# Altium integrated library Renesas Microcontroller 740.IntLib: 274 symbols (part 6 of 13)
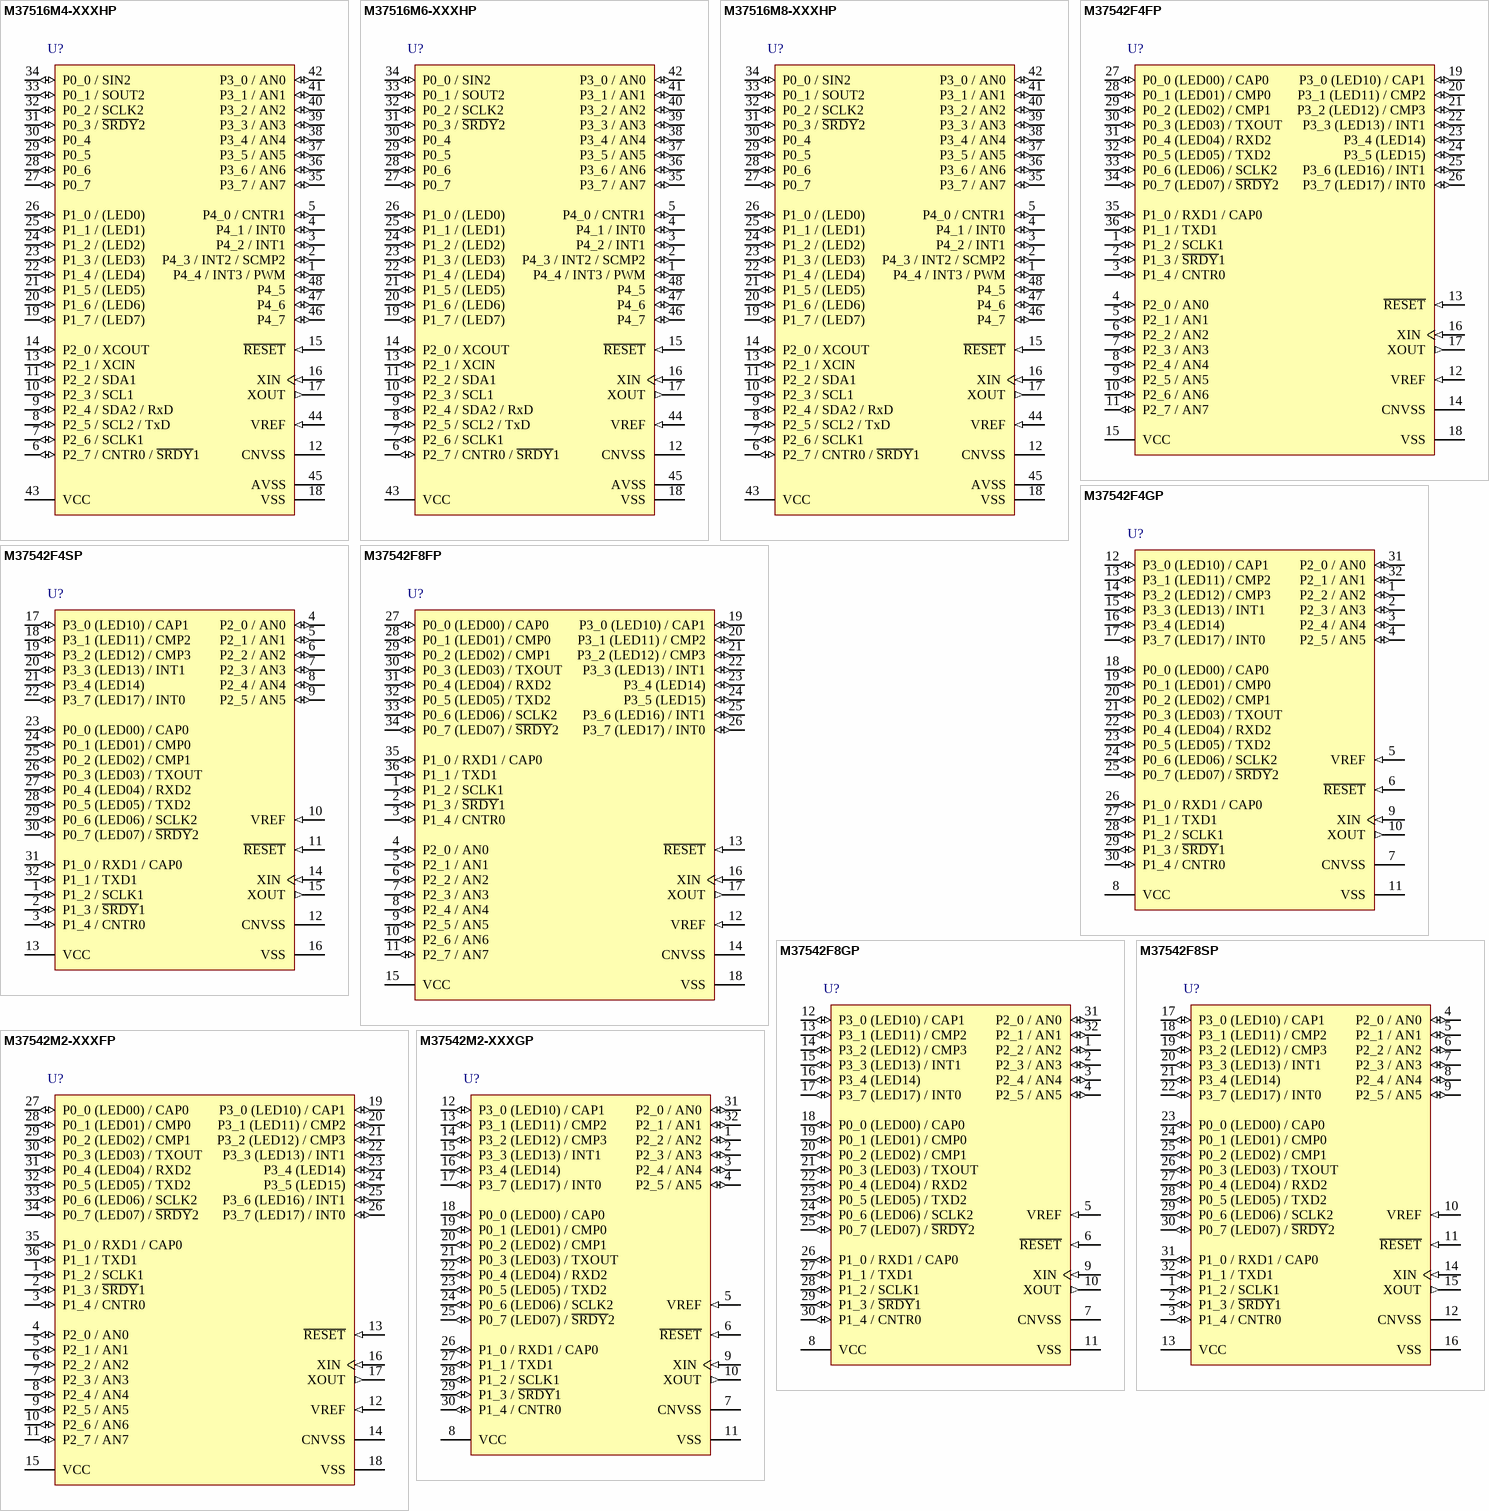
[diagram p42: symbols M37516M4-XXXHP to M37542M2-XXXGP]

## M37542F4FP
designator U?
Flash Memory 8-BIT CMOS Microcomputer, 38000/740 Series CPU, 7542 Group, 20K ROM, 1K RAM, 36P2R-A Pkg; Published: 28-Aug-2009; DatasheetVersion: Rev.3.03, Jul-2008; PackageVersion: Sep-2005; PackageReference: PRSP0036GA-A; Publisher: Altium Limited; PackageDescription: 36-Pin Plastic Shrink SOP, 15 x 8.4 mm Body, 0.8 mm Pitch; Code_JEITA: P-SSOP36-8.4x15-0.80; ComponentLink1Description: Manufacturer Link; ComponentLink1URL: http://sg.renesas.com/fmwk.jsp?cnt=740_family_landing.jsp&fp=/products/mpumcu/740_family/; ComponentLink2Description: Datasheet; ComponentLink2URL: http://documentation.renesas.com/eng/products/mpumcu/rej03b0006_7542ds.pdf; ComponentLink3Description: Packaging Specification; ComponentLink3URL: http://sg.renesas.com/media/products/common_info/package/pdf/ic/code/prsp0036ga_a.pdf
footprint PRSP0036GA-A_N (SOP, 36-Leads, Body 15x8.4mm, Pitch 0.8mm, IPC Medium Density)
footprint PRSP0036GA-A_L (SOP, 36-Leads, Body 15x8.4mm, Pitch 0.8mm, IPC High Density)
footprint PRSP0036GA-A_M (SOP, 36-Leads, Body 15x8.4mm, Pitch 0.8mm, IPC Low Density)
pins: 1 P1_2 / SCLK1 (io), 2 P1_3 / ~{SRDY}1 (io), 3 P1_4 / CNTR0 (io), 4 P2_0 / AN0 (io), 5 P2_1 / AN1 (io), 6 P2_2 / AN2 (io), 7 P2_3 / AN3 (io), 8 P2_4 / AN4 (io), 9 P2_5 / AN5 (io), 10 P2_6 / AN6 (io), 11 P2_7 / AN7 (io), 12 VREF (in), 13 ~{RESET} (in), 14 CNVSS (power), 15 VCC (power), 16 XIN (in), 17 XOUT (out), 18 VSS (power), 19 P3_0 (LED10) / CAP1 (io), 20 P3_1 (LED11) / CMP2 (io), 21 P3_2 (LED12) / CMP3 (io), 22 P3_3 (LED13) / INT1 (io), 23 P3_4 (LED14) (io), 24 P3_5 (LED15) (io), 25 P3_6 (LED16) / INT1 (io), 26 P3_7 (LED17) / INT0 (io), 27 P0_0 (LED00) / CAP0 (io), 28 P0_1 (LED01) / CMP0 (io), 29 P0_2 (LED02) / CMP1 (io), 30 P0_3 (LED03) / TXOUT (io), 31 P0_4 (LED04) / RXD2 (io), 32 P0_5 (LED05) / TXD2 (io), 33 P0_6 (LED06) / SCLK2 (io), 34 P0_7 (LED07) / ~{SRDY}2 (io), 35 P1_0 / RXD1 / CAP0 (io), 36 P1_1 / TXD1 (io)

## M37542F4GP
designator U?
Flash Memory 8-BIT CMOS Microcomputer, 38000/740 Series CPU, 7542 Group, 20K ROM, 1K RAM, 32P6U-A Pkg; Published: 28-Aug-2009; DatasheetVersion: Rev.3.03, Jul-2008; PackageVersion: Oct-2005; PackageReference: PLQP0032GB-A; Publisher: Altium Limited; PackageDescription: 32-Pin Plastic Low Profile QFP, 7 x 7 x 1.4 mm Body, 0.8 mm Pitch; Code_JEITA: P-LQFP32-7x7-0.80; ComponentLink1Description: Manufacturer Link; ComponentLink1URL: http://sg.renesas.com/fmwk.jsp?cnt=740_family_landing.jsp&fp=/products/mpumcu/740_family/; ComponentLink2Description: Datasheet; ComponentLink2URL: http://documentation.renesas.com/eng/products/mpumcu/rej03b0006_7542ds.pdf; ComponentLink3Description: Packaging Specification; ComponentLink3URL: http://sg.renesas.com/media/products/common_info/package/pdf/ic/code/plqp0032gb_a.pdf
footprint PLQP0032GB-A_N (QFP, 32-Leads, Body 7x7mm, Pitch 0.8mm, IPC Medium Density)
footprint PLQP0032GB-A_L (QFP, 32-Leads, Body 7x7mm, Pitch 0.8mm, IPC High Density)
footprint PLQP0032GB-A_M (QFP, 32-Leads, Body 7x7mm, Pitch 0.8mm, IPC Low Density)
pins: 1 P2_2 / AN2 (io), 2 P2_3 / AN3 (io), 3 P2_4 / AN4 (io), 4 P2_5 / AN5 (io), 5 VREF (in), 6 ~{RESET} (in), 7 CNVSS (power), 8 VCC (power), 9 XIN (in), 10 XOUT (out), 11 VSS (power), 12 P3_0 (LED10) / CAP1 (io), 13 P3_1 (LED11) / CMP2 (io), 14 P3_2 (LED12) / CMP3 (io), 15 P3_3 (LED13) / INT1 (io), 16 P3_4 (LED14) (io), 17 P3_7 (LED17) / INT0 (io), 18 P0_0 (LED00) / CAP0 (io), 19 P0_1 (LED01) / CMP0 (io), 20 P0_2 (LED02) / CMP1 (io), 21 P0_3 (LED03) / TXOUT (io), 22 P0_4 (LED04) / RXD2 (io), 23 P0_5 (LED05) / TXD2 (io), 24 P0_6 (LED06) / SCLK2 (io), 25 P0_7 (LED07) / ~{SRDY}2 (io), 26 P1_0 / RXD1 / CAP0 (io), 27 P1_1 / TXD1 (io), 28 P1_2 / SCLK1 (io), 29 P1_3 / ~{SRDY}1 (io), 30 P1_4 / CNTR0 (io), 31 P2_0 / AN0 (io), 32 P2_1 / AN1 (io)

## M37542F4SP
designator U?
Flash Memory 8-BIT CMOS Microcomputer, 38000/740 Series CPU, 7542 Group, 20K ROM, 1K RAM, 32P4B Pkg; Published: 28-Aug-2009; DatasheetVersion: Rev.3.03, Jul-2008; PackageVersion: Sep-2005; PackageReference: PRDP0032BA-A; Publisher: Altium Limited; PackageDescription: 32-Pin Plastic Shrink DIP, 28 x 8.9 mm Body, 10.16 mm Row Spacing , 1.778 mm Pitch; Code_JEITA: P-SDIP32-8.9x28-1.78; ComponentLink1Description: Manufacturer Link; ComponentLink1URL: http://sg.renesas.com/fmwk.jsp?cnt=740_family_landing.jsp&fp=/products/mpumcu/740_family/; ComponentLink2Description: Datasheet; ComponentLink2URL: http://documentation.renesas.com/eng/products/mpumcu/rej03b0006_7542ds.pdf; ComponentLink3Description: Packaging Specification; ComponentLink3URL: http://sg.renesas.com/media/products/common_info/package/pdf/ic/code/prdp0032ba_a.pdf
footprint PRDP0032BA-A (DIP, 32-Leads, Row Spacing 10.16mm, Pitch 1.778mm, Body 28x8.9mm)
pins: 1 P1_2 / SCLK1 (io), 2 P1_3 / ~{SRDY}1 (io), 3 P1_4 / CNTR0 (io), 4 P2_0 / AN0 (io), 5 P2_1 / AN1 (io), 6 P2_2 / AN2 (io), 7 P2_3 / AN3 (io), 8 P2_4 / AN4 (io), 9 P2_5 / AN5 (io), 10 VREF (in), 11 ~{RESET} (in), 12 CNVSS (power), 13 VCC (power), 14 XIN (in), 15 XOUT (out), 16 VSS (power), 17 P3_0 (LED10) / CAP1 (io), 18 P3_1 (LED11) / CMP2 (io), 19 P3_2 (LED12) / CMP3 (io), 20 P3_3 (LED13) / INT1 (io), 21 P3_4 (LED14) (io), 22 P3_7 (LED17) / INT0 (io), 23 P0_0 (LED00) / CAP0 (io), 24 P0_1 (LED01) / CMP0 (io), 25 P0_2 (LED02) / CMP1 (io), 26 P0_3 (LED03) / TXOUT (io), 27 P0_4 (LED04) / RXD2 (io), 28 P0_5 (LED05) / TXD2 (io), 29 P0_6 (LED06) / SCLK2 (io), 30 P0_7 (LED07) / ~{SRDY}2 (io), 31 P1_0 / RXD1 / CAP0 (io), 32 P1_1 / TXD1 (io)

## M37542F8FP
designator U?
Flash Memory 8-BIT CMOS Microcomputer, 38000/740 Series CPU, 7542 Group, 36K ROM, 1K RAM, 36P2R-A Pkg; Published: 28-Aug-2009; DatasheetVersion: Rev.3.03, Jul-2008; PackageVersion: Sep-2005; PackageReference: PRSP0036GA-A; Publisher: Altium Limited; PackageDescription: 36-Pin Plastic Shrink SOP, 15 x 8.4 mm Body, 0.8 mm Pitch; Supplier 1: Digi-Key; Supplier Part Number 1: M37542F8FP-ND; Code_JEITA: P-SSOP36-8.4x15-0.80; ComponentLink1Description: Manufacturer Link; ComponentLink1URL: http://sg.renesas.com/fmwk.jsp?cnt=740_family_landing.jsp&fp=/products/mpumcu/740_family/; ComponentLink2Description: Datasheet; ComponentLink2URL: http://documentation.renesas.com/eng/products/mpumcu/rej03b0006_7542ds.pdf; ComponentLink3Description: Packaging Specification; ComponentLink3URL: http://sg.renesas.com/media/products/common_info/package/pdf/ic/code/prsp0036ga_a.pdf
footprint PRSP0036GA-A_N (SOP, 36-Leads, Body 15x8.4mm, Pitch 0.8mm, IPC Medium Density)
footprint PRSP0036GA-A_L (SOP, 36-Leads, Body 15x8.4mm, Pitch 0.8mm, IPC High Density)
footprint PRSP0036GA-A_M (SOP, 36-Leads, Body 15x8.4mm, Pitch 0.8mm, IPC Low Density)
pins: 1 P1_2 / SCLK1 (io), 2 P1_3 / ~{SRDY}1 (io), 3 P1_4 / CNTR0 (io), 4 P2_0 / AN0 (io), 5 P2_1 / AN1 (io), 6 P2_2 / AN2 (io), 7 P2_3 / AN3 (io), 8 P2_4 / AN4 (io), 9 P2_5 / AN5 (io), 10 P2_6 / AN6 (io), 11 P2_7 / AN7 (io), 12 VREF (in), 13 ~{RESET} (in), 14 CNVSS (power), 15 VCC (power), 16 XIN (in), 17 XOUT (out), 18 VSS (power), 19 P3_0 (LED10) / CAP1 (io), 20 P3_1 (LED11) / CMP2 (io), 21 P3_2 (LED12) / CMP3 (io), 22 P3_3 (LED13) / INT1 (io), 23 P3_4 (LED14) (io), 24 P3_5 (LED15) (io), 25 P3_6 (LED16) / INT1 (io), 26 P3_7 (LED17) / INT0 (io), 27 P0_0 (LED00) / CAP0 (io), 28 P0_1 (LED01) / CMP0 (io), 29 P0_2 (LED02) / CMP1 (io), 30 P0_3 (LED03) / TXOUT (io), 31 P0_4 (LED04) / RXD2 (io), 32 P0_5 (LED05) / TXD2 (io), 33 P0_6 (LED06) / SCLK2 (io), 34 P0_7 (LED07) / ~{SRDY}2 (io), 35 P1_0 / RXD1 / CAP0 (io), 36 P1_1 / TXD1 (io)

## M37542F8GP
designator U?
Flash Memory 8-BIT CMOS Microcomputer, 38000/740 Series CPU, 7542 Group, 36K ROM, 1K RAM, 32P6U-A Pkg; Published: 28-Aug-2009; DatasheetVersion: Rev.3.03, Jul-2008; PackageVersion: Oct-2005; PackageReference: PLQP0032GB-A; Publisher: Altium Limited; PackageDescription: 32-Pin Plastic Low Profile QFP, 7 x 7 x 1.4 mm Body, 0.8 mm Pitch; Supplier 1: Digi-Key; Supplier Part Number 1: M37542F8GP-ND; Code_JEITA: P-LQFP32-7x7-0.80; ComponentLink1Description: Manufacturer Link; ComponentLink1URL: http://sg.renesas.com/fmwk.jsp?cnt=740_family_landing.jsp&fp=/products/mpumcu/740_family/; ComponentLink2Description: Datasheet; ComponentLink2URL: http://documentation.renesas.com/eng/products/mpumcu/rej03b0006_7542ds.pdf; ComponentLink3Description: Packaging Specification; ComponentLink3URL: http://sg.renesas.com/media/products/common_info/package/pdf/ic/code/plqp0032gb_a.pdf
footprint PLQP0032GB-A_N (QFP, 32-Leads, Body 7x7mm, Pitch 0.8mm, IPC Medium Density)
footprint PLQP0032GB-A_L (QFP, 32-Leads, Body 7x7mm, Pitch 0.8mm, IPC High Density)
footprint PLQP0032GB-A_M (QFP, 32-Leads, Body 7x7mm, Pitch 0.8mm, IPC Low Density)
pins: 1 P2_2 / AN2 (io), 2 P2_3 / AN3 (io), 3 P2_4 / AN4 (io), 4 P2_5 / AN5 (io), 5 VREF (in), 6 ~{RESET} (in), 7 CNVSS (power), 8 VCC (power), 9 XIN (in), 10 XOUT (out), 11 VSS (power), 12 P3_0 (LED10) / CAP1 (io), 13 P3_1 (LED11) / CMP2 (io), 14 P3_2 (LED12) / CMP3 (io), 15 P3_3 (LED13) / INT1 (io), 16 P3_4 (LED14) (io), 17 P3_7 (LED17) / INT0 (io), 18 P0_0 (LED00) / CAP0 (io), 19 P0_1 (LED01) / CMP0 (io), 20 P0_2 (LED02) / CMP1 (io), 21 P0_3 (LED03) / TXOUT (io), 22 P0_4 (LED04) / RXD2 (io), 23 P0_5 (LED05) / TXD2 (io), 24 P0_6 (LED06) / SCLK2 (io), 25 P0_7 (LED07) / ~{SRDY}2 (io), 26 P1_0 / RXD1 / CAP0 (io), 27 P1_1 / TXD1 (io), 28 P1_2 / SCLK1 (io), 29 P1_3 / ~{SRDY}1 (io), 30 P1_4 / CNTR0 (io), 31 P2_0 / AN0 (io), 32 P2_1 / AN1 (io)

## M37542F8SP
designator U?
Flash Memory 8-BIT CMOS Microcomputer, 38000/740 Series CPU, 7542 Group, 36K ROM, 1K RAM, 32P4B Pkg; Published: 28-Aug-2009; DatasheetVersion: Rev.3.03, Jul-2008; PackageVersion: Sep-2005; PackageReference: PRDP0032BA-A; Publisher: Altium Limited; PackageDescription: 32-Pin Plastic Shrink DIP, 28 x 8.9 mm Body, 10.16 mm Row Spacing , 1.778 mm Pitch; Supplier 1: Digi-Key; Supplier Part Number 1: M37542F8SP-ND; Code_JEITA: P-SDIP32-8.9x28-1.78; ComponentLink1Description: Manufacturer Link; ComponentLink1URL: http://sg.renesas.com/fmwk.jsp?cnt=740_family_landing.jsp&fp=/products/mpumcu/740_family/; ComponentLink2Description: Datasheet; ComponentLink2URL: http://documentation.renesas.com/eng/products/mpumcu/rej03b0006_7542ds.pdf; ComponentLink3Description: Packaging Specification; ComponentLink3URL: http://sg.renesas.com/media/products/common_info/package/pdf/ic/code/prdp0032ba_a.pdf
footprint PRDP0032BA-A (DIP, 32-Leads, Row Spacing 10.16mm, Pitch 1.778mm, Body 28x8.9mm)
pins: 1 P1_2 / SCLK1 (io), 2 P1_3 / ~{SRDY}1 (io), 3 P1_4 / CNTR0 (io), 4 P2_0 / AN0 (io), 5 P2_1 / AN1 (io), 6 P2_2 / AN2 (io), 7 P2_3 / AN3 (io), 8 P2_4 / AN4 (io), 9 P2_5 / AN5 (io), 10 VREF (in), 11 ~{RESET} (in), 12 CNVSS (power), 13 VCC (power), 14 XIN (in), 15 XOUT (out), 16 VSS (power), 17 P3_0 (LED10) / CAP1 (io), 18 P3_1 (LED11) / CMP2 (io), 19 P3_2 (LED12) / CMP3 (io), 20 P3_3 (LED13) / INT1 (io), 21 P3_4 (LED14) (io), 22 P3_7 (LED17) / INT0 (io), 23 P0_0 (LED00) / CAP0 (io), 24 P0_1 (LED01) / CMP0 (io), 25 P0_2 (LED02) / CMP1 (io), 26 P0_3 (LED03) / TXOUT (io), 27 P0_4 (LED04) / RXD2 (io), 28 P0_5 (LED05) / TXD2 (io), 29 P0_6 (LED06) / SCLK2 (io), 30 P0_7 (LED07) / ~{SRDY}2 (io), 31 P1_0 / RXD1 / CAP0 (io), 32 P1_1 / TXD1 (io)

## M37542M2-XXXFP
designator U?
Mask ROM 8-BIT CMOS Microcomputer, 38000/740 Series CPU, 7542 Group, 8K ROM, 384 bytes RAM, 36P2R-A Pkg; Published: 28-Aug-2009; DatasheetVersion: Rev.3.03, Jul-2008; PackageVersion: Sep-2005; PackageReference: PRSP0036GA-A; Publisher: Altium Limited; PackageDescription: 36-Pin Plastic Shrink SOP, 15 x 8.4 mm Body, 0.8 mm Pitch; Code_JEITA: P-SSOP36-8.4x15-0.80; ComponentLink1Description: Manufacturer Link; ComponentLink1URL: http://sg.renesas.com/fmwk.jsp?cnt=740_family_landing.jsp&fp=/products/mpumcu/740_family/; ComponentLink2Description: Datasheet; ComponentLink2URL: http://documentation.renesas.com/eng/products/mpumcu/rej03b0006_7542ds.pdf; ComponentLink3Description: Packaging Specification; ComponentLink3URL: http://sg.renesas.com/media/products/common_info/package/pdf/ic/code/prsp0036ga_a.pdf
footprint PRSP0036GA-A_N (SOP, 36-Leads, Body 15x8.4mm, Pitch 0.8mm, IPC Medium Density)
footprint PRSP0036GA-A_L (SOP, 36-Leads, Body 15x8.4mm, Pitch 0.8mm, IPC High Density)
footprint PRSP0036GA-A_M (SOP, 36-Leads, Body 15x8.4mm, Pitch 0.8mm, IPC Low Density)
pins: 1 P1_2 / SCLK1 (io), 2 P1_3 / ~{SRDY}1 (io), 3 P1_4 / CNTR0 (io), 4 P2_0 / AN0 (io), 5 P2_1 / AN1 (io), 6 P2_2 / AN2 (io), 7 P2_3 / AN3 (io), 8 P2_4 / AN4 (io), 9 P2_5 / AN5 (io), 10 P2_6 / AN6 (io), 11 P2_7 / AN7 (io), 12 VREF (in), 13 ~{RESET} (in), 14 CNVSS (power), 15 VCC (power), 16 XIN (in), 17 XOUT (out), 18 VSS (power), 19 P3_0 (LED10) / CAP1 (io), 20 P3_1 (LED11) / CMP2 (io), 21 P3_2 (LED12) / CMP3 (io), 22 P3_3 (LED13) / INT1 (io), 23 P3_4 (LED14) (io), 24 P3_5 (LED15) (io), 25 P3_6 (LED16) / INT1 (io), 26 P3_7 (LED17) / INT0 (io), 27 P0_0 (LED00) / CAP0 (io), 28 P0_1 (LED01) / CMP0 (io), 29 P0_2 (LED02) / CMP1 (io), 30 P0_3 (LED03) / TXOUT (io), 31 P0_4 (LED04) / RXD2 (io), 32 P0_5 (LED05) / TXD2 (io), 33 P0_6 (LED06) / SCLK2 (io), 34 P0_7 (LED07) / ~{SRDY}2 (io), 35 P1_0 / RXD1 / CAP0 (io), 36 P1_1 / TXD1 (io)

## M37542M2-XXXGP
designator U?
Mask ROM 8-BIT CMOS Microcomputer, 38000/740 Series CPU, 7542 Group, 8K ROM, 384 bytes RAM, 32P6U-A Pkg; Published: 28-Aug-2009; DatasheetVersion: Rev.3.03, Jul-2008; PackageVersion: Oct-2005; PackageReference: PLQP0032GB-A; Publisher: Altium Limited; PackageDescription: 32-Pin Plastic Low Profile QFP, 7 x 7 x 1.4 mm Body, 0.8 mm Pitch; Code_JEITA: P-LQFP32-7x7-0.80; ComponentLink1Description: Manufacturer Link; ComponentLink1URL: http://sg.renesas.com/fmwk.jsp?cnt=740_family_landing.jsp&fp=/products/mpumcu/740_family/; ComponentLink2Description: Datasheet; ComponentLink2URL: http://documentation.renesas.com/eng/products/mpumcu/rej03b0006_7542ds.pdf; ComponentLink3Description: Packaging Specification; ComponentLink3URL: http://sg.renesas.com/media/products/common_info/package/pdf/ic/code/plqp0032gb_a.pdf
footprint PLQP0032GB-A_N (QFP, 32-Leads, Body 7x7mm, Pitch 0.8mm, IPC Medium Density)
footprint PLQP0032GB-A_L (QFP, 32-Leads, Body 7x7mm, Pitch 0.8mm, IPC High Density)
footprint PLQP0032GB-A_M (QFP, 32-Leads, Body 7x7mm, Pitch 0.8mm, IPC Low Density)
pins: 1 P2_2 / AN2 (io), 2 P2_3 / AN3 (io), 3 P2_4 / AN4 (io), 4 P2_5 / AN5 (io), 5 VREF (in), 6 ~{RESET} (in), 7 CNVSS (power), 8 VCC (power), 9 XIN (in), 10 XOUT (out), 11 VSS (power), 12 P3_0 (LED10) / CAP1 (io), 13 P3_1 (LED11) / CMP2 (io), 14 P3_2 (LED12) / CMP3 (io), 15 P3_3 (LED13) / INT1 (io), 16 P3_4 (LED14) (io), 17 P3_7 (LED17) / INT0 (io), 18 P0_0 (LED00) / CAP0 (io), 19 P0_1 (LED01) / CMP0 (io), 20 P0_2 (LED02) / CMP1 (io), 21 P0_3 (LED03) / TXOUT (io), 22 P0_4 (LED04) / RXD2 (io), 23 P0_5 (LED05) / TXD2 (io), 24 P0_6 (LED06) / SCLK2 (io), 25 P0_7 (LED07) / ~{SRDY}2 (io), 26 P1_0 / RXD1 / CAP0 (io), 27 P1_1 / TXD1 (io), 28 P1_2 / SCLK1 (io), 29 P1_3 / ~{SRDY}1 (io), 30 P1_4 / CNTR0 (io), 31 P2_0 / AN0 (io), 32 P2_1 / AN1 (io)

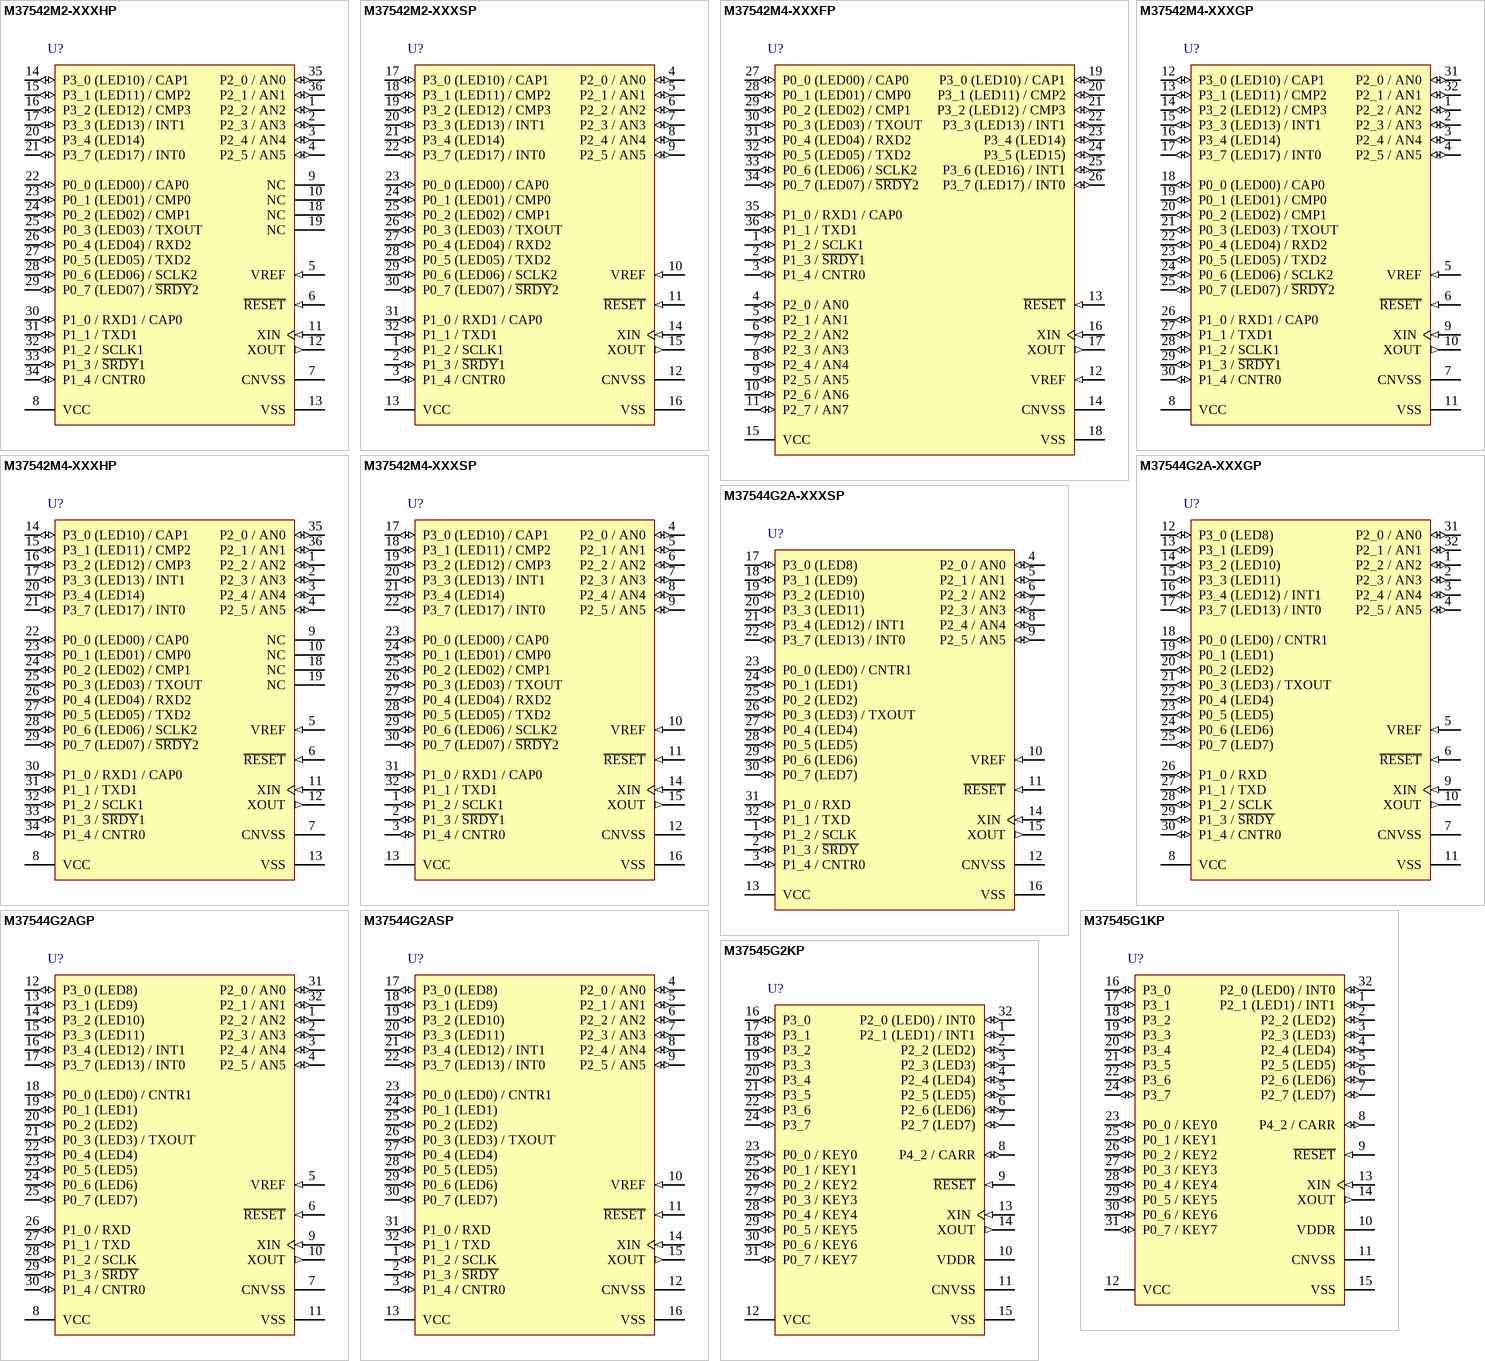
[diagram p17: symbols M37542M2-XXXHP to M37545G2KP]

## M37542M2-XXXHP
designator U?
Mask ROM 8-BIT CMOS Microcomputer, 38000/740 Series CPU, 7542 Group, 8K ROM, 384 bytes RAM, 32PJW-A Pkg; Published: 28-Aug-2009; DatasheetVersion: Rev.3.03, Jul-2008; PackageVersion: Sep-2006; PackageReference: PWQN0036KA-A; Publisher: Altium Limited; PackageDescription: 36-Pin Plastic Very-very Thin QFN, 6 x 6 X 0.75 mm Body, 0.5 mm Pitch, Exposed Pad; Code_JEITA: P-HWQFN36-6x6-0.50; ComponentLink1Description: Manufacturer Link; ComponentLink1URL: http://sg.renesas.com/fmwk.jsp?cnt=740_family_landing.jsp&fp=/products/mpumcu/740_family/; ComponentLink2Description: Datasheet; ComponentLink2URL: http://documentation.renesas.com/eng/products/mpumcu/rej03b0006_7542ds.pdf; ComponentLink3Description: Packaging Specification; ComponentLink3URL: http://sg.renesas.com/media/products/common_info/package/pdf/ic/code/pwqn0036ka_a.pdf
footprint PWQN0036KA-A_N (QFN, 36-Leads, Body 6x6mm, Pitch 0.5mm, IPC Medium Density)
footprint PWQN0036KA-A_L (QFN, 36-Leads, Body 6x6mm, Pitch 0.5mm, IPC High Density)
footprint PWQN0036KA-A_M (QFN, 36-Leads, Body 6x6mm, Pitch 0.5mm, IPC Low Density)
pins: 1 P2_2 / AN2 (io), 2 P2_3 / AN3 (io), 3 P2_4 / AN4 (io), 4 P2_5 / AN5 (io), 5 VREF (in), 6 ~{RESET} (in), 7 CNVSS (power), 8 VCC (power), 9 NC, 10 NC, 11 XIN (in), 12 XOUT (out), 13 VSS (power), 14 P3_0 (LED10) / CAP1 (io), 15 P3_1 (LED11) / CMP2 (io), 16 P3_2 (LED12) / CMP3 (io), 17 P3_3 (LED13) / INT1 (io), 18 NC, 19 NC, 20 P3_4 (LED14) (io), 21 P3_7 (LED17) / INT0 (io), 22 P0_0 (LED00) / CAP0 (io), 23 P0_1 (LED01) / CMP0 (io), 24 P0_2 (LED02) / CMP1 (io), 25 P0_3 (LED03) / TXOUT (io), 26 P0_4 (LED04) / RXD2 (io), 27 P0_5 (LED05) / TXD2 (io), 28 P0_6 (LED06) / SCLK2 (io), 29 P0_7 (LED07) / ~{SRDY}2 (io), 30 P1_0 / RXD1 / CAP0 (io), 31 P1_1 / TXD1 (io), 32 P1_2 / SCLK1 (io), 33 P1_3 / ~{SRDY}1 (io), 34 P1_4 / CNTR0 (io), 35 P2_0 / AN0 (io), 36 P2_1 / AN1 (io)

## M37542M2-XXXSP
designator U?
Mask ROM 8-BIT CMOS Microcomputer, 38000/740 Series CPU, 7542 Group, 8K ROM, 384 bytes RAM, 32P4B Pkg; Published: 28-Aug-2009; DatasheetVersion: Rev.3.03, Jul-2008; PackageVersion: Sep-2005; PackageReference: PRDP0032BA-A; Publisher: Altium Limited; PackageDescription: 32-Pin Plastic Shrink DIP, 28 x 8.9 mm Body, 10.16 mm Row Spacing , 1.778 mm Pitch; Code_JEITA: P-SDIP32-8.9x28-1.78; ComponentLink1Description: Manufacturer Link; ComponentLink1URL: http://sg.renesas.com/fmwk.jsp?cnt=740_family_landing.jsp&fp=/products/mpumcu/740_family/; ComponentLink2Description: Datasheet; ComponentLink2URL: http://documentation.renesas.com/eng/products/mpumcu/rej03b0006_7542ds.pdf; ComponentLink3Description: Packaging Specification; ComponentLink3URL: http://sg.renesas.com/media/products/common_info/package/pdf/ic/code/prdp0032ba_a.pdf
footprint PRDP0032BA-A (DIP, 32-Leads, Row Spacing 10.16mm, Pitch 1.778mm, Body 28x8.9mm)
pins: 1 P1_2 / SCLK1 (io), 2 P1_3 / ~{SRDY}1 (io), 3 P1_4 / CNTR0 (io), 4 P2_0 / AN0 (io), 5 P2_1 / AN1 (io), 6 P2_2 / AN2 (io), 7 P2_3 / AN3 (io), 8 P2_4 / AN4 (io), 9 P2_5 / AN5 (io), 10 VREF (in), 11 ~{RESET} (in), 12 CNVSS (power), 13 VCC (power), 14 XIN (in), 15 XOUT (out), 16 VSS (power), 17 P3_0 (LED10) / CAP1 (io), 18 P3_1 (LED11) / CMP2 (io), 19 P3_2 (LED12) / CMP3 (io), 20 P3_3 (LED13) / INT1 (io), 21 P3_4 (LED14) (io), 22 P3_7 (LED17) / INT0 (io), 23 P0_0 (LED00) / CAP0 (io), 24 P0_1 (LED01) / CMP0 (io), 25 P0_2 (LED02) / CMP1 (io), 26 P0_3 (LED03) / TXOUT (io), 27 P0_4 (LED04) / RXD2 (io), 28 P0_5 (LED05) / TXD2 (io), 29 P0_6 (LED06) / SCLK2 (io), 30 P0_7 (LED07) / ~{SRDY}2 (io), 31 P1_0 / RXD1 / CAP0 (io), 32 P1_1 / TXD1 (io)

## M37542M4-XXXFP
designator U?
Mask ROM 8-BIT CMOS Microcomputer, 38000/740 Series CPU, 7542 Group, 16K ROM, 512 bytes RAM, 36P2R-A Pkg; Published: 28-Aug-2009; DatasheetVersion: Rev.3.03, Jul-2008; PackageVersion: Sep-2005; PackageReference: PRSP0036GA-A; Publisher: Altium Limited; PackageDescription: 36-Pin Plastic Shrink SOP, 15 x 8.4 mm Body, 0.8 mm Pitch; Code_JEITA: P-SSOP36-8.4x15-0.80; ComponentLink1Description: Manufacturer Link; ComponentLink1URL: http://sg.renesas.com/fmwk.jsp?cnt=740_family_landing.jsp&fp=/products/mpumcu/740_family/; ComponentLink2Description: Datasheet; ComponentLink2URL: http://documentation.renesas.com/eng/products/mpumcu/rej03b0006_7542ds.pdf; ComponentLink3Description: Packaging Specification; ComponentLink3URL: http://sg.renesas.com/media/products/common_info/package/pdf/ic/code/prsp0036ga_a.pdf
footprint PRSP0036GA-A_N (SOP, 36-Leads, Body 15x8.4mm, Pitch 0.8mm, IPC Medium Density)
footprint PRSP0036GA-A_L (SOP, 36-Leads, Body 15x8.4mm, Pitch 0.8mm, IPC High Density)
footprint PRSP0036GA-A_M (SOP, 36-Leads, Body 15x8.4mm, Pitch 0.8mm, IPC Low Density)
pins: 1 P1_2 / SCLK1 (io), 2 P1_3 / ~{SRDY}1 (io), 3 P1_4 / CNTR0 (io), 4 P2_0 / AN0 (io), 5 P2_1 / AN1 (io), 6 P2_2 / AN2 (io), 7 P2_3 / AN3 (io), 8 P2_4 / AN4 (io), 9 P2_5 / AN5 (io), 10 P2_6 / AN6 (io), 11 P2_7 / AN7 (io), 12 VREF (in), 13 ~{RESET} (in), 14 CNVSS (power), 15 VCC (power), 16 XIN (in), 17 XOUT (out), 18 VSS (power), 19 P3_0 (LED10) / CAP1 (io), 20 P3_1 (LED11) / CMP2 (io), 21 P3_2 (LED12) / CMP3 (io), 22 P3_3 (LED13) / INT1 (io), 23 P3_4 (LED14) (io), 24 P3_5 (LED15) (io), 25 P3_6 (LED16) / INT1 (io), 26 P3_7 (LED17) / INT0 (io), 27 P0_0 (LED00) / CAP0 (io), 28 P0_1 (LED01) / CMP0 (io), 29 P0_2 (LED02) / CMP1 (io), 30 P0_3 (LED03) / TXOUT (io), 31 P0_4 (LED04) / RXD2 (io), 32 P0_5 (LED05) / TXD2 (io), 33 P0_6 (LED06) / SCLK2 (io), 34 P0_7 (LED07) / ~{SRDY}2 (io), 35 P1_0 / RXD1 / CAP0 (io), 36 P1_1 / TXD1 (io)

## M37542M4-XXXGP
designator U?
Mask ROM 8-BIT CMOS Microcomputer, 38000/740 Series CPU, 7542 Group, 16K ROM, 512 bytes RAM, 32P6U-A Pkg; Published: 28-Aug-2009; DatasheetVersion: Rev.3.03, Jul-2008; PackageVersion: Oct-2005; PackageReference: PLQP0032GB-A; Publisher: Altium Limited; PackageDescription: 32-Pin Plastic Low Profile QFP, 7 x 7 x 1.4 mm Body, 0.8 mm Pitch; Code_JEITA: P-LQFP32-7x7-0.80; ComponentLink1Description: Manufacturer Link; ComponentLink1URL: http://sg.renesas.com/fmwk.jsp?cnt=740_family_landing.jsp&fp=/products/mpumcu/740_family/; ComponentLink2Description: Datasheet; ComponentLink2URL: http://documentation.renesas.com/eng/products/mpumcu/rej03b0006_7542ds.pdf; ComponentLink3Description: Packaging Specification; ComponentLink3URL: http://sg.renesas.com/media/products/common_info/package/pdf/ic/code/plqp0032gb_a.pdf
footprint PLQP0032GB-A_N (QFP, 32-Leads, Body 7x7mm, Pitch 0.8mm, IPC Medium Density)
footprint PLQP0032GB-A_L (QFP, 32-Leads, Body 7x7mm, Pitch 0.8mm, IPC High Density)
footprint PLQP0032GB-A_M (QFP, 32-Leads, Body 7x7mm, Pitch 0.8mm, IPC Low Density)
pins: 1 P2_2 / AN2 (io), 2 P2_3 / AN3 (io), 3 P2_4 / AN4 (io), 4 P2_5 / AN5 (io), 5 VREF (in), 6 ~{RESET} (in), 7 CNVSS (power), 8 VCC (power), 9 XIN (in), 10 XOUT (out), 11 VSS (power), 12 P3_0 (LED10) / CAP1 (io), 13 P3_1 (LED11) / CMP2 (io), 14 P3_2 (LED12) / CMP3 (io), 15 P3_3 (LED13) / INT1 (io), 16 P3_4 (LED14) (io), 17 P3_7 (LED17) / INT0 (io), 18 P0_0 (LED00) / CAP0 (io), 19 P0_1 (LED01) / CMP0 (io), 20 P0_2 (LED02) / CMP1 (io), 21 P0_3 (LED03) / TXOUT (io), 22 P0_4 (LED04) / RXD2 (io), 23 P0_5 (LED05) / TXD2 (io), 24 P0_6 (LED06) / SCLK2 (io), 25 P0_7 (LED07) / ~{SRDY}2 (io), 26 P1_0 / RXD1 / CAP0 (io), 27 P1_1 / TXD1 (io), 28 P1_2 / SCLK1 (io), 29 P1_3 / ~{SRDY}1 (io), 30 P1_4 / CNTR0 (io), 31 P2_0 / AN0 (io), 32 P2_1 / AN1 (io)

## M37542M4-XXXHP
designator U?
Mask ROM 8-BIT CMOS Microcomputer, 38000/740 Series CPU, 7542 Group, 16K ROM, 512 bytes RAM, 32PJW-A Pkg; Published: 28-Aug-2009; DatasheetVersion: Rev.3.03, Jul-2008; PackageVersion: Sep-2006; PackageReference: PWQN0036KA-A; Publisher: Altium Limited; PackageDescription: 36-Pin Plastic Very-very Thin QFN, 6 x 6 X 0.75 mm Body, 0.5 mm Pitch, Exposed Pad; Code_JEITA: P-HWQFN36-6x6-0.50; ComponentLink1Description: Manufacturer Link; ComponentLink1URL: http://sg.renesas.com/fmwk.jsp?cnt=740_family_landing.jsp&fp=/products/mpumcu/740_family/; ComponentLink2Description: Datasheet; ComponentLink2URL: http://documentation.renesas.com/eng/products/mpumcu/rej03b0006_7542ds.pdf; ComponentLink3Description: Packaging Specification; ComponentLink3URL: http://sg.renesas.com/media/products/common_info/package/pdf/ic/code/pwqn0036ka_a.pdf
footprint PWQN0036KA-A_N (QFN, 36-Leads, Body 6x6mm, Pitch 0.5mm, IPC Medium Density)
footprint PWQN0036KA-A_L (QFN, 36-Leads, Body 6x6mm, Pitch 0.5mm, IPC High Density)
footprint PWQN0036KA-A_M (QFN, 36-Leads, Body 6x6mm, Pitch 0.5mm, IPC Low Density)
pins: 1 P2_2 / AN2 (io), 2 P2_3 / AN3 (io), 3 P2_4 / AN4 (io), 4 P2_5 / AN5 (io), 5 VREF (in), 6 ~{RESET} (in), 7 CNVSS (power), 8 VCC (power), 9 NC, 10 NC, 11 XIN (in), 12 XOUT (out), 13 VSS (power), 14 P3_0 (LED10) / CAP1 (io), 15 P3_1 (LED11) / CMP2 (io), 16 P3_2 (LED12) / CMP3 (io), 17 P3_3 (LED13) / INT1 (io), 18 NC, 19 NC, 20 P3_4 (LED14) (io), 21 P3_7 (LED17) / INT0 (io), 22 P0_0 (LED00) / CAP0 (io), 23 P0_1 (LED01) / CMP0 (io), 24 P0_2 (LED02) / CMP1 (io), 25 P0_3 (LED03) / TXOUT (io), 26 P0_4 (LED04) / RXD2 (io), 27 P0_5 (LED05) / TXD2 (io), 28 P0_6 (LED06) / SCLK2 (io), 29 P0_7 (LED07) / ~{SRDY}2 (io), 30 P1_0 / RXD1 / CAP0 (io), 31 P1_1 / TXD1 (io), 32 P1_2 / SCLK1 (io), 33 P1_3 / ~{SRDY}1 (io), 34 P1_4 / CNTR0 (io), 35 P2_0 / AN0 (io), 36 P2_1 / AN1 (io)

## M37542M4-XXXSP
designator U?
Mask ROM 8-BIT CMOS Microcomputer, 38000/740 Series CPU, 7542 Group, 16K ROM, 512 bytes RAM, 32P4B Pkg; Published: 28-Aug-2009; DatasheetVersion: Rev.3.03, Jul-2008; PackageVersion: Sep-2005; PackageReference: PRDP0032BA-A; Publisher: Altium Limited; PackageDescription: 32-Pin Plastic Shrink DIP, 28 x 8.9 mm Body, 10.16 mm Row Spacing , 1.778 mm Pitch; Code_JEITA: P-SDIP32-8.9x28-1.78; ComponentLink1Description: Manufacturer Link; ComponentLink1URL: http://sg.renesas.com/fmwk.jsp?cnt=740_family_landing.jsp&fp=/products/mpumcu/740_family/; ComponentLink2Description: Datasheet; ComponentLink2URL: http://documentation.renesas.com/eng/products/mpumcu/rej03b0006_7542ds.pdf; ComponentLink3Description: Packaging Specification; ComponentLink3URL: http://sg.renesas.com/media/products/common_info/package/pdf/ic/code/prdp0032ba_a.pdf
footprint PRDP0032BA-A (DIP, 32-Leads, Row Spacing 10.16mm, Pitch 1.778mm, Body 28x8.9mm)
pins: 1 P1_2 / SCLK1 (io), 2 P1_3 / ~{SRDY}1 (io), 3 P1_4 / CNTR0 (io), 4 P2_0 / AN0 (io), 5 P2_1 / AN1 (io), 6 P2_2 / AN2 (io), 7 P2_3 / AN3 (io), 8 P2_4 / AN4 (io), 9 P2_5 / AN5 (io), 10 VREF (in), 11 ~{RESET} (in), 12 CNVSS (power), 13 VCC (power), 14 XIN (in), 15 XOUT (out), 16 VSS (power), 17 P3_0 (LED10) / CAP1 (io), 18 P3_1 (LED11) / CMP2 (io), 19 P3_2 (LED12) / CMP3 (io), 20 P3_3 (LED13) / INT1 (io), 21 P3_4 (LED14) (io), 22 P3_7 (LED17) / INT0 (io), 23 P0_0 (LED00) / CAP0 (io), 24 P0_1 (LED01) / CMP0 (io), 25 P0_2 (LED02) / CMP1 (io), 26 P0_3 (LED03) / TXOUT (io), 27 P0_4 (LED04) / RXD2 (io), 28 P0_5 (LED05) / TXD2 (io), 29 P0_6 (LED06) / SCLK2 (io), 30 P0_7 (LED07) / ~{SRDY}2 (io), 31 P1_0 / RXD1 / CAP0 (io), 32 P1_1 / TXD1 (io)

## M37544G2A-XXXGP
designator U?
QzROM 8-BIT CMOS Microcomputer, 38000/740 Series CPU, 7544 Group, 8K ROM, 256 bytes RAM, 32P6U-A Pkg; Published: 28-Aug-2009; DatasheetVersion: Rev.1.03, Mar-2009; PackageVersion: Oct-2005; PackageReference: PLQP0032GB-A; Publisher: Altium Limited; PackageDescription: 32-Pin Plastic Low Profile QFP, 7 x 7 x 1.4 mm Body, 0.8 mm Pitch; Code_JEITA: P-LQFP32-7x7-0.80; ComponentLink1Description: Manufacturer Link; ComponentLink1URL: http://sg.renesas.com/fmwk.jsp?cnt=740_family_landing.jsp&fp=/products/mpumcu/740_family/; ComponentLink2Description: Datasheet; ComponentLink2URL: http://documentation.renesas.com/eng/products/mpumcu/rej03b0108_7544qds.pdf; ComponentLink3Description: Packaging Specification; ComponentLink3URL: http://sg.renesas.com/media/products/common_info/package/pdf/ic/code/plqp0032gb_a.pdf
footprint PLQP0032GB-A_N (QFP, 32-Leads, Body 7x7mm, Pitch 0.8mm, IPC Medium Density)
footprint PLQP0032GB-A_L (QFP, 32-Leads, Body 7x7mm, Pitch 0.8mm, IPC High Density)
footprint PLQP0032GB-A_M (QFP, 32-Leads, Body 7x7mm, Pitch 0.8mm, IPC Low Density)
pins: 1 P2_2 / AN2 (io), 2 P2_3 / AN3 (io), 3 P2_4 / AN4 (io), 4 P2_5 / AN5 (io), 5 VREF (in), 6 ~{RESET} (in), 7 CNVSS (power), 8 VCC (power), 9 XIN (in), 10 XOUT (out), 11 VSS (power), 12 P3_0 (LED8) (io), 13 P3_1 (LED9) (io), 14 P3_2 (LED10) (io), 15 P3_3 (LED11) (io), 16 P3_4 (LED12) / INT1 (io), 17 P3_7 (LED13) / INT0 (io), 18 P0_0 (LED0) / CNTR1 (io), 19 P0_1 (LED1) (io), 20 P0_2 (LED2) (io), 21 P0_3 (LED3) / TXOUT (io), 22 P0_4 (LED4) (io), 23 P0_5 (LED5) (io), 24 P0_6 (LED6) (io), 25 P0_7 (LED7) (io), 26 P1_0 / RXD (io), 27 P1_1 / TXD (io), 28 P1_2 / SCLK (io), 29 P1_3 / ~{SRDY} (io), 30 P1_4 / CNTR0 (io), 31 P2_0 / AN0 (io), 32 P2_1 / AN1 (io)

## M37544G2A-XXXSP
designator U?
QzROM 8-BIT CMOS Microcomputer, 38000/740 Series CPU, 7544 Group, 8K ROM, 256 bytes RAM, 32P4B Pkg; Published: 28-Aug-2009; DatasheetVersion: Rev.1.03, Mar-2009; PackageVersion: Sep-2005; PackageReference: PRDP0032BA-A; Publisher: Altium Limited; PackageDescription: 32-Pin Plastic Shrink DIP, 28 x 8.9 mm Body, 10.16 mm Row Spacing , 1.778 mm Pitch; Code_JEITA: P-SDIP32-8.9x28-1.78; ComponentLink1Description: Manufacturer Link; ComponentLink1URL: http://sg.renesas.com/fmwk.jsp?cnt=740_family_landing.jsp&fp=/products/mpumcu/740_family/; ComponentLink2Description: Datasheet; ComponentLink2URL: http://documentation.renesas.com/eng/products/mpumcu/rej03b0108_7544qds.pdf; ComponentLink3Description: Packaging Specification; ComponentLink3URL: http://sg.renesas.com/media/products/common_info/package/pdf/ic/code/prdp0032ba_a.pdf
footprint PRDP0032BA-A (DIP, 32-Leads, Row Spacing 10.16mm, Pitch 1.778mm, Body 28x8.9mm)
pins: 1 P1_2 / SCLK (io), 2 P1_3 / ~{SRDY} (io), 3 P1_4 / CNTR0 (io), 4 P2_0 / AN0 (io), 5 P2_1 / AN1 (io), 6 P2_2 / AN2 (io), 7 P2_3 / AN3 (io), 8 P2_4 / AN4 (io), 9 P2_5 / AN5 (io), 10 VREF (in), 11 ~{RESET} (in), 12 CNVSS (power), 13 VCC (power), 14 XIN (in), 15 XOUT (out), 16 VSS (power), 17 P3_0 (LED8) (io), 18 P3_1 (LED9) (io), 19 P3_2 (LED10) (io), 20 P3_3 (LED11) (io), 21 P3_4 (LED12) / INT1 (io), 22 P3_7 (LED13) / INT0 (io), 23 P0_0 (LED0) / CNTR1 (io), 24 P0_1 (LED1) (io), 25 P0_2 (LED2) (io), 26 P0_3 (LED3) / TXOUT (io), 27 P0_4 (LED4) (io), 28 P0_5 (LED5) (io), 29 P0_6 (LED6) (io), 30 P0_7 (LED7) (io), 31 P1_0 / RXD (io), 32 P1_1 / TXD (io)

## M37544G2AGP
designator U?
QzROM 8-BIT CMOS Microcomputer, 38000/740 Series CPU, 7544 Group, 8K ROM, 256 bytes RAM, 32P6U-A Pkg, shipped in blank; Published: 28-Aug-2009; DatasheetVersion: Rev.1.03, Mar-2009; PackageVersion: Oct-2005; PackageReference: PLQP0032GB-A; Publisher: Altium Limited; PackageDescription: 32-Pin Plastic Low Profile QFP, 7 x 7 x 1.4 mm Body, 0.8 mm Pitch; Supplier 1: Digi-Key; Supplier Part Number 1: M37544G2AGP-ND; Code_JEITA: P-LQFP32-7x7-0.80; ComponentLink1Description: Manufacturer Link; ComponentLink1URL: http://sg.renesas.com/fmwk.jsp?cnt=740_family_landing.jsp&fp=/products/mpumcu/740_family/; ComponentLink2Description: Datasheet; ComponentLink2URL: http://documentation.renesas.com/eng/products/mpumcu/rej03b0108_7544qds.pdf; ComponentLink3Description: Packaging Specification; ComponentLink3URL: http://sg.renesas.com/media/products/common_info/package/pdf/ic/code/plqp0032gb_a.pdf
footprint PLQP0032GB-A_N (QFP, 32-Leads, Body 7x7mm, Pitch 0.8mm, IPC Medium Density)
footprint PLQP0032GB-A_L (QFP, 32-Leads, Body 7x7mm, Pitch 0.8mm, IPC High Density)
footprint PLQP0032GB-A_M (QFP, 32-Leads, Body 7x7mm, Pitch 0.8mm, IPC Low Density)
pins: 1 P2_2 / AN2 (io), 2 P2_3 / AN3 (io), 3 P2_4 / AN4 (io), 4 P2_5 / AN5 (io), 5 VREF (in), 6 ~{RESET} (in), 7 CNVSS (power), 8 VCC (power), 9 XIN (in), 10 XOUT (out), 11 VSS (power), 12 P3_0 (LED8) (io), 13 P3_1 (LED9) (io), 14 P3_2 (LED10) (io), 15 P3_3 (LED11) (io), 16 P3_4 (LED12) / INT1 (io), 17 P3_7 (LED13) / INT0 (io), 18 P0_0 (LED0) / CNTR1 (io), 19 P0_1 (LED1) (io), 20 P0_2 (LED2) (io), 21 P0_3 (LED3) / TXOUT (io), 22 P0_4 (LED4) (io), 23 P0_5 (LED5) (io), 24 P0_6 (LED6) (io), 25 P0_7 (LED7) (io), 26 P1_0 / RXD (io), 27 P1_1 / TXD (io), 28 P1_2 / SCLK (io), 29 P1_3 / ~{SRDY} (io), 30 P1_4 / CNTR0 (io), 31 P2_0 / AN0 (io), 32 P2_1 / AN1 (io)

## M37544G2ASP
designator U?
QzROM 8-BIT CMOS Microcomputer, 38000/740 Series CPU, 7544 Group, 8K ROM, 256 bytes RAM, 32P4B Pkg, shipped in blank; Published: 28-Aug-2009; DatasheetVersion: Rev.1.03, Mar-2009; PackageVersion: Sep-2005; PackageReference: PRDP0032BA-A; Publisher: Altium Limited; PackageDescription: 32-Pin Plastic Shrink DIP, 28 x 8.9 mm Body, 10.16 mm Row Spacing , 1.778 mm Pitch; Code_JEITA: P-SDIP32-8.9x28-1.78; ComponentLink1Description: Manufacturer Link; ComponentLink1URL: http://sg.renesas.com/fmwk.jsp?cnt=740_family_landing.jsp&fp=/products/mpumcu/740_family/; ComponentLink2Description: Datasheet; ComponentLink2URL: http://documentation.renesas.com/eng/products/mpumcu/rej03b0108_7544qds.pdf; ComponentLink3Description: Packaging Specification; ComponentLink3URL: http://sg.renesas.com/media/products/common_info/package/pdf/ic/code/prdp0032ba_a.pdf
footprint PRDP0032BA-A (DIP, 32-Leads, Row Spacing 10.16mm, Pitch 1.778mm, Body 28x8.9mm)
pins: 1 P1_2 / SCLK (io), 2 P1_3 / ~{SRDY} (io), 3 P1_4 / CNTR0 (io), 4 P2_0 / AN0 (io), 5 P2_1 / AN1 (io), 6 P2_2 / AN2 (io), 7 P2_3 / AN3 (io), 8 P2_4 / AN4 (io), 9 P2_5 / AN5 (io), 10 VREF (in), 11 ~{RESET} (in), 12 CNVSS (power), 13 VCC (power), 14 XIN (in), 15 XOUT (out), 16 VSS (power), 17 P3_0 (LED8) (io), 18 P3_1 (LED9) (io), 19 P3_2 (LED10) (io), 20 P3_3 (LED11) (io), 21 P3_4 (LED12) / INT1 (io), 22 P3_7 (LED13) / INT0 (io), 23 P0_0 (LED0) / CNTR1 (io), 24 P0_1 (LED1) (io), 25 P0_2 (LED2) (io), 26 P0_3 (LED3) / TXOUT (io), 27 P0_4 (LED4) (io), 28 P0_5 (LED5) (io), 29 P0_6 (LED6) (io), 30 P0_7 (LED7) (io), 31 P1_0 / RXD (io), 32 P1_1 / TXD (io)

## M37545G1KP
designator U?
QzROM 8-BIT CMOS Microcomputer, 38000/740 Series CPU, 7545 Group, 4K ROM, 256 bytes RAM, 32P2X-B Pkg, shipped in blank; Published: 28-Aug-2009; DatasheetVersion: Rev.1.07, Mar-2009; PackageVersion: 2009; PackageReference: PLSP0032JB-A; Publisher: Altium Limited; PackageDescription: 32-Pin Plastic Low Profile Shrink SOP, 11 x 5.6 x 1.15 mm Body, 0.65 mm Pitch; Code_JEITA: P-LSSOP32-5.6x11-0.65; ComponentLink1Description: Manufacturer Link; ComponentLink1URL: http://sg.renesas.com/fmwk.jsp?cnt=740_family_landing.jsp&fp=/products/mpumcu/740_family/; ComponentLink2Description: Datasheet; ComponentLink2URL: http://documentation.renesas.com/eng/products/mpumcu/rej03b0140_7545ds.pdf
footprint PLSP0032JB-A_N (SOP, 32-Leads, Body 11x5.6mm, Pitch 0.65mm, IPC Medium Density)
footprint PLSP0032JB-A_L (SOP, 32-Leads, Body 11x5.6mm, Pitch 0.65mm, IPC High Density)
footprint PLSP0032JB-A_M (SOP, 32-Leads, Body 11x5.6mm, Pitch 0.65mm, IPC Low Density)
pins: 1 P2_1 (LED1) / INT1 (io), 2 P2_2 (LED2) (io), 3 P2_3 (LED3) (io), 4 P2_4 (LED4) (io), 5 P2_5 (LED5) (io), 6 P2_6 (LED6) (io), 7 P2_7 (LED7) (io), 8 P4_2 / CARR (io), 9 ~{RESET} (in), 10 VDDR, 11 CNVSS (power), 12 VCC (power), 13 XIN (in), 14 XOUT (out), 15 VSS (power), 16 P3_0 (io), 17 P3_1 (io), 18 P3_2 (io), 19 P3_3 (io), 20 P3_4 (io), 21 P3_5 (io), 22 P3_6 (io), 23 P0_0 / KEY0 (io), 24 P3_7 (io), 25 P0_1 / KEY1 (io), 26 P0_2 / KEY2 (io), 27 P0_3 / KEY3 (io), 28 P0_4 / KEY4 (io), 29 P0_5 / KEY5 (io), 30 P0_6 / KEY6 (io), 31 P0_7 / KEY7 (io), 32 P2_0 (LED0) / INT0 (io)

## M37545G2KP
designator U?
QzROM 8-BIT CMOS Microcomputer, 38000/740 Series CPU, 7545 Group, 8K ROM, 256 bytes RAM, 32P2X-B Pkg, shipped in blank; Published: 28-Aug-2009; DatasheetVersion: Rev.1.07, Mar-2009; PackageVersion: 2009; PackageReference: PLSP0032JB-A; Publisher: Altium Limited; PackageDescription: 32-Pin Plastic Low Profile Shrink SOP, 11 x 5.6 x 1.15 mm Body, 0.65 mm Pitch; Code_JEITA: P-LSSOP32-5.6x11-0.65; ComponentLink1Description: Manufacturer Link; ComponentLink1URL: http://sg.renesas.com/fmwk.jsp?cnt=740_family_landing.jsp&fp=/products/mpumcu/740_family/; ComponentLink2Description: Datasheet; ComponentLink2URL: http://documentation.renesas.com/eng/products/mpumcu/rej03b0140_7545ds.pdf
footprint PLSP0032JB-A_N (SOP, 32-Leads, Body 11x5.6mm, Pitch 0.65mm, IPC Medium Density)
footprint PLSP0032JB-A_L (SOP, 32-Leads, Body 11x5.6mm, Pitch 0.65mm, IPC High Density)
footprint PLSP0032JB-A_M (SOP, 32-Leads, Body 11x5.6mm, Pitch 0.65mm, IPC Low Density)
pins: 1 P2_1 (LED1) / INT1 (io), 2 P2_2 (LED2) (io), 3 P2_3 (LED3) (io), 4 P2_4 (LED4) (io), 5 P2_5 (LED5) (io), 6 P2_6 (LED6) (io), 7 P2_7 (LED7) (io), 8 P4_2 / CARR (io), 9 ~{RESET} (in), 10 VDDR, 11 CNVSS (power), 12 VCC (power), 13 XIN (in), 14 XOUT (out), 15 VSS (power), 16 P3_0 (io), 17 P3_1 (io), 18 P3_2 (io), 19 P3_3 (io), 20 P3_4 (io), 21 P3_5 (io), 22 P3_6 (io), 23 P0_0 / KEY0 (io), 24 P3_7 (io), 25 P0_1 / KEY1 (io), 26 P0_2 / KEY2 (io), 27 P0_3 / KEY3 (io), 28 P0_4 / KEY4 (io), 29 P0_5 / KEY5 (io), 30 P0_6 / KEY6 (io), 31 P0_7 / KEY7 (io), 32 P2_0 (LED0) / INT0 (io)

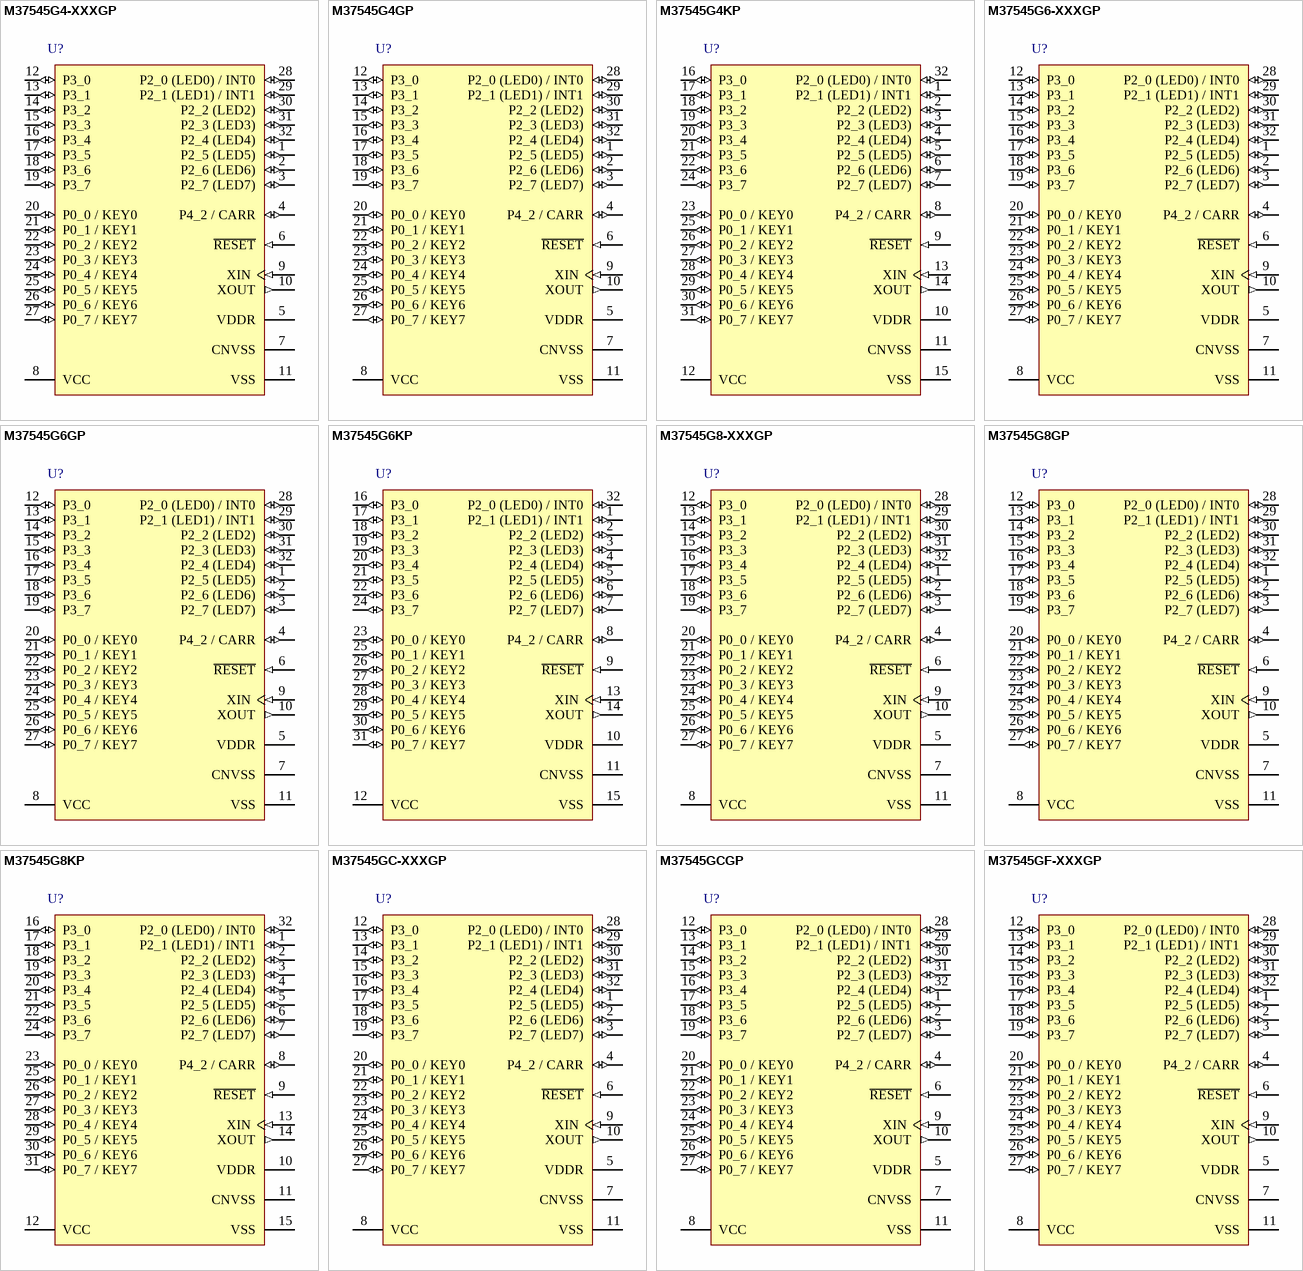
[diagram p18: symbols M37545G4-XXXGP to M37545GF-XXXGP]

## M37545G4-XXXGP
designator U?
QzROM 8-BIT CMOS Microcomputer, 38000/740 Series CPU, 7545 Group, 16K ROM, 512 bytes RAM, 32P6U-A Pkg; Published: 28-Aug-2009; DatasheetVersion: Rev.1.07, Mar-2009; PackageVersion: Oct-2005; PackageReference: PLQP0032GB-A; Publisher: Altium Limited; PackageDescription: 32-Pin Plastic Low Profile QFP, 7 x 7 x 1.4 mm Body, 0.8 mm Pitch; Code_JEITA: P-LQFP32-7x7-0.80; ComponentLink1Description: Manufacturer Link; ComponentLink1URL: http://sg.renesas.com/fmwk.jsp?cnt=740_family_landing.jsp&fp=/products/mpumcu/740_family/; ComponentLink2Description: Datasheet; ComponentLink2URL: http://documentation.renesas.com/eng/products/mpumcu/rej03b0140_7545ds.pdf; ComponentLink3Description: Packaging Specification; ComponentLink3URL: http://sg.renesas.com/media/products/common_info/package/pdf/ic/code/plqp0032gb_a.pdf
footprint PLQP0032GB-A_N (QFP, 32-Leads, Body 7x7mm, Pitch 0.8mm, IPC Medium Density)
footprint PLQP0032GB-A_L (QFP, 32-Leads, Body 7x7mm, Pitch 0.8mm, IPC High Density)
footprint PLQP0032GB-A_M (QFP, 32-Leads, Body 7x7mm, Pitch 0.8mm, IPC Low Density)
pins: 1 P2_5 (LED5) (io), 2 P2_6 (LED6) (io), 3 P2_7 (LED7) (io), 4 P4_2 / CARR (io), 5 VDDR, 6 ~{RESET} (in), 7 CNVSS (power), 8 VCC (power), 9 XIN (in), 10 XOUT (out), 11 VSS (power), 12 P3_0 (io), 13 P3_1 (io), 14 P3_2 (io), 15 P3_3 (io), 16 P3_4 (io), 17 P3_5 (io), 18 P3_6 (io), 19 P3_7 (io), 20 P0_0 / KEY0 (io), 21 P0_1 / KEY1 (io), 22 P0_2 / KEY2 (io), 23 P0_3 / KEY3 (io), 24 P0_4 / KEY4 (io), 25 P0_5 / KEY5 (io), 26 P0_6 / KEY6 (io), 27 P0_7 / KEY7 (io), 28 P2_0 (LED0) / INT0 (io), 29 P2_1 (LED1) / INT1 (io), 30 P2_2 (LED2) (io), 31 P2_3 (LED3) (io), 32 P2_4 (LED4) (io)

## M37545G4GP
designator U?
QzROM 8-BIT CMOS Microcomputer, 38000/740 Series CPU, 7545 Group, 16K ROM, 512 bytes RAM, 32P6U-A Pkg, shipped in blank; Published: 28-Aug-2009; DatasheetVersion: Rev.1.07, Mar-2009; PackageVersion: Oct-2005; PackageReference: PLQP0032GB-A; Publisher: Altium Limited; PackageDescription: 32-Pin Plastic Low Profile QFP, 7 x 7 x 1.4 mm Body, 0.8 mm Pitch; Code_JEITA: P-LQFP32-7x7-0.80; ComponentLink1Description: Manufacturer Link; ComponentLink1URL: http://sg.renesas.com/fmwk.jsp?cnt=740_family_landing.jsp&fp=/products/mpumcu/740_family/; ComponentLink2Description: Datasheet; ComponentLink2URL: http://documentation.renesas.com/eng/products/mpumcu/rej03b0140_7545ds.pdf; ComponentLink3Description: Packaging Specification; ComponentLink3URL: http://sg.renesas.com/media/products/common_info/package/pdf/ic/code/plqp0032gb_a.pdf
footprint PLQP0032GB-A_N (QFP, 32-Leads, Body 7x7mm, Pitch 0.8mm, IPC Medium Density)
footprint PLQP0032GB-A_L (QFP, 32-Leads, Body 7x7mm, Pitch 0.8mm, IPC High Density)
footprint PLQP0032GB-A_M (QFP, 32-Leads, Body 7x7mm, Pitch 0.8mm, IPC Low Density)
pins: 1 P2_5 (LED5) (io), 2 P2_6 (LED6) (io), 3 P2_7 (LED7) (io), 4 P4_2 / CARR (io), 5 VDDR, 6 ~{RESET} (in), 7 CNVSS (power), 8 VCC (power), 9 XIN (in), 10 XOUT (out), 11 VSS (power), 12 P3_0 (io), 13 P3_1 (io), 14 P3_2 (io), 15 P3_3 (io), 16 P3_4 (io), 17 P3_5 (io), 18 P3_6 (io), 19 P3_7 (io), 20 P0_0 / KEY0 (io), 21 P0_1 / KEY1 (io), 22 P0_2 / KEY2 (io), 23 P0_3 / KEY3 (io), 24 P0_4 / KEY4 (io), 25 P0_5 / KEY5 (io), 26 P0_6 / KEY6 (io), 27 P0_7 / KEY7 (io), 28 P2_0 (LED0) / INT0 (io), 29 P2_1 (LED1) / INT1 (io), 30 P2_2 (LED2) (io), 31 P2_3 (LED3) (io), 32 P2_4 (LED4) (io)

## M37545G4KP
designator U?
QzROM 8-BIT CMOS Microcomputer, 38000/740 Series CPU, 7545 Group, 16K ROM, 512 bytes RAM, 32P2X-B Pkg, shipped in blank; Published: 28-Aug-2009; DatasheetVersion: Rev.1.07, Mar-2009; PackageVersion: 2009; PackageReference: PLSP0032JB-A; Publisher: Altium Limited; PackageDescription: 32-Pin Plastic Low Profile Shrink SOP, 11 x 5.6 x 1.15 mm Body, 0.65 mm Pitch; Code_JEITA: P-LSSOP32-5.6x11-0.65; ComponentLink1Description: Manufacturer Link; ComponentLink1URL: http://sg.renesas.com/fmwk.jsp?cnt=740_family_landing.jsp&fp=/products/mpumcu/740_family/; ComponentLink2Description: Datasheet; ComponentLink2URL: http://documentation.renesas.com/eng/products/mpumcu/rej03b0140_7545ds.pdf
footprint PLSP0032JB-A_N (SOP, 32-Leads, Body 11x5.6mm, Pitch 0.65mm, IPC Medium Density)
footprint PLSP0032JB-A_L (SOP, 32-Leads, Body 11x5.6mm, Pitch 0.65mm, IPC High Density)
footprint PLSP0032JB-A_M (SOP, 32-Leads, Body 11x5.6mm, Pitch 0.65mm, IPC Low Density)
pins: 1 P2_1 (LED1) / INT1 (io), 2 P2_2 (LED2) (io), 3 P2_3 (LED3) (io), 4 P2_4 (LED4) (io), 5 P2_5 (LED5) (io), 6 P2_6 (LED6) (io), 7 P2_7 (LED7) (io), 8 P4_2 / CARR (io), 9 ~{RESET} (in), 10 VDDR, 11 CNVSS (power), 12 VCC (power), 13 XIN (in), 14 XOUT (out), 15 VSS (power), 16 P3_0 (io), 17 P3_1 (io), 18 P3_2 (io), 19 P3_3 (io), 20 P3_4 (io), 21 P3_5 (io), 22 P3_6 (io), 23 P0_0 / KEY0 (io), 24 P3_7 (io), 25 P0_1 / KEY1 (io), 26 P0_2 / KEY2 (io), 27 P0_3 / KEY3 (io), 28 P0_4 / KEY4 (io), 29 P0_5 / KEY5 (io), 30 P0_6 / KEY6 (io), 31 P0_7 / KEY7 (io), 32 P2_0 (LED0) / INT0 (io)

## M37545G6-XXXGP
designator U?
QzROM 8-BIT CMOS Microcomputer, 38000/740 Series CPU, 7545 Group, 24K ROM, 512 bytes RAM, 32P6U-A Pkg; Published: 28-Aug-2009; DatasheetVersion: Rev.1.07, Mar-2009; PackageVersion: Oct-2005; PackageReference: PLQP0032GB-A; Publisher: Altium Limited; PackageDescription: 32-Pin Plastic Low Profile QFP, 7 x 7 x 1.4 mm Body, 0.8 mm Pitch; Code_JEITA: P-LQFP32-7x7-0.80; ComponentLink1Description: Manufacturer Link; ComponentLink1URL: http://sg.renesas.com/fmwk.jsp?cnt=740_family_landing.jsp&fp=/products/mpumcu/740_family/; ComponentLink2Description: Datasheet; ComponentLink2URL: http://documentation.renesas.com/eng/products/mpumcu/rej03b0140_7545ds.pdf; ComponentLink3Description: Packaging Specification; ComponentLink3URL: http://sg.renesas.com/media/products/common_info/package/pdf/ic/code/plqp0032gb_a.pdf
footprint PLQP0032GB-A_N (QFP, 32-Leads, Body 7x7mm, Pitch 0.8mm, IPC Medium Density)
footprint PLQP0032GB-A_L (QFP, 32-Leads, Body 7x7mm, Pitch 0.8mm, IPC High Density)
footprint PLQP0032GB-A_M (QFP, 32-Leads, Body 7x7mm, Pitch 0.8mm, IPC Low Density)
pins: 1 P2_5 (LED5) (io), 2 P2_6 (LED6) (io), 3 P2_7 (LED7) (io), 4 P4_2 / CARR (io), 5 VDDR, 6 ~{RESET} (in), 7 CNVSS (power), 8 VCC (power), 9 XIN (in), 10 XOUT (out), 11 VSS (power), 12 P3_0 (io), 13 P3_1 (io), 14 P3_2 (io), 15 P3_3 (io), 16 P3_4 (io), 17 P3_5 (io), 18 P3_6 (io), 19 P3_7 (io), 20 P0_0 / KEY0 (io), 21 P0_1 / KEY1 (io), 22 P0_2 / KEY2 (io), 23 P0_3 / KEY3 (io), 24 P0_4 / KEY4 (io), 25 P0_5 / KEY5 (io), 26 P0_6 / KEY6 (io), 27 P0_7 / KEY7 (io), 28 P2_0 (LED0) / INT0 (io), 29 P2_1 (LED1) / INT1 (io), 30 P2_2 (LED2) (io), 31 P2_3 (LED3) (io), 32 P2_4 (LED4) (io)

## M37545G6GP
designator U?
QzROM 8-BIT CMOS Microcomputer, 38000/740 Series CPU, 7545 Group, 24K ROM, 512 bytes RAM, 32P6U-A Pkg, shipped in blank; Published: 28-Aug-2009; DatasheetVersion: Rev.1.07, Mar-2009; PackageVersion: Oct-2005; PackageReference: PLQP0032GB-A; Publisher: Altium Limited; PackageDescription: 32-Pin Plastic Low Profile QFP, 7 x 7 x 1.4 mm Body, 0.8 mm Pitch; Code_JEITA: P-LQFP32-7x7-0.80; ComponentLink1Description: Manufacturer Link; ComponentLink1URL: http://sg.renesas.com/fmwk.jsp?cnt=740_family_landing.jsp&fp=/products/mpumcu/740_family/; ComponentLink2Description: Datasheet; ComponentLink2URL: http://documentation.renesas.com/eng/products/mpumcu/rej03b0140_7545ds.pdf; ComponentLink3Description: Packaging Specification; ComponentLink3URL: http://sg.renesas.com/media/products/common_info/package/pdf/ic/code/plqp0032gb_a.pdf
footprint PLQP0032GB-A_N (QFP, 32-Leads, Body 7x7mm, Pitch 0.8mm, IPC Medium Density)
footprint PLQP0032GB-A_L (QFP, 32-Leads, Body 7x7mm, Pitch 0.8mm, IPC High Density)
footprint PLQP0032GB-A_M (QFP, 32-Leads, Body 7x7mm, Pitch 0.8mm, IPC Low Density)
pins: 1 P2_5 (LED5) (io), 2 P2_6 (LED6) (io), 3 P2_7 (LED7) (io), 4 P4_2 / CARR (io), 5 VDDR, 6 ~{RESET} (in), 7 CNVSS (power), 8 VCC (power), 9 XIN (in), 10 XOUT (out), 11 VSS (power), 12 P3_0 (io), 13 P3_1 (io), 14 P3_2 (io), 15 P3_3 (io), 16 P3_4 (io), 17 P3_5 (io), 18 P3_6 (io), 19 P3_7 (io), 20 P0_0 / KEY0 (io), 21 P0_1 / KEY1 (io), 22 P0_2 / KEY2 (io), 23 P0_3 / KEY3 (io), 24 P0_4 / KEY4 (io), 25 P0_5 / KEY5 (io), 26 P0_6 / KEY6 (io), 27 P0_7 / KEY7 (io), 28 P2_0 (LED0) / INT0 (io), 29 P2_1 (LED1) / INT1 (io), 30 P2_2 (LED2) (io), 31 P2_3 (LED3) (io), 32 P2_4 (LED4) (io)

## M37545G6KP
designator U?
QzROM 8-BIT CMOS Microcomputer, 38000/740 Series CPU, 7545 Group, 24K ROM, 512 bytes RAM, 32P2X-B Pkg, shipped in blank; Published: 28-Aug-2009; DatasheetVersion: Rev.1.07, Mar-2009; PackageVersion: 2009; PackageReference: PLSP0032JB-A; Publisher: Altium Limited; PackageDescription: 32-Pin Plastic Low Profile Shrink SOP, 11 x 5.6 x 1.15 mm Body, 0.65 mm Pitch; Code_JEITA: P-LSSOP32-5.6x11-0.65; ComponentLink1Description: Manufacturer Link; ComponentLink1URL: http://sg.renesas.com/fmwk.jsp?cnt=740_family_landing.jsp&fp=/products/mpumcu/740_family/; ComponentLink2Description: Datasheet; ComponentLink2URL: http://documentation.renesas.com/eng/products/mpumcu/rej03b0140_7545ds.pdf
footprint PLSP0032JB-A_N (SOP, 32-Leads, Body 11x5.6mm, Pitch 0.65mm, IPC Medium Density)
footprint PLSP0032JB-A_L (SOP, 32-Leads, Body 11x5.6mm, Pitch 0.65mm, IPC High Density)
footprint PLSP0032JB-A_M (SOP, 32-Leads, Body 11x5.6mm, Pitch 0.65mm, IPC Low Density)
pins: 1 P2_1 (LED1) / INT1 (io), 2 P2_2 (LED2) (io), 3 P2_3 (LED3) (io), 4 P2_4 (LED4) (io), 5 P2_5 (LED5) (io), 6 P2_6 (LED6) (io), 7 P2_7 (LED7) (io), 8 P4_2 / CARR (io), 9 ~{RESET} (in), 10 VDDR, 11 CNVSS (power), 12 VCC (power), 13 XIN (in), 14 XOUT (out), 15 VSS (power), 16 P3_0 (io), 17 P3_1 (io), 18 P3_2 (io), 19 P3_3 (io), 20 P3_4 (io), 21 P3_5 (io), 22 P3_6 (io), 23 P0_0 / KEY0 (io), 24 P3_7 (io), 25 P0_1 / KEY1 (io), 26 P0_2 / KEY2 (io), 27 P0_3 / KEY3 (io), 28 P0_4 / KEY4 (io), 29 P0_5 / KEY5 (io), 30 P0_6 / KEY6 (io), 31 P0_7 / KEY7 (io), 32 P2_0 (LED0) / INT0 (io)

## M37545G8-XXXGP
designator U?
QzROM 8-BIT CMOS Microcomputer, 38000/740 Series CPU, 7545 Group, 32K ROM, 512 bytes RAM, 32P6U-A Pkg; Published: 28-Aug-2009; DatasheetVersion: Rev.1.07, Mar-2009; PackageVersion: Oct-2005; PackageReference: PLQP0032GB-A; Publisher: Altium Limited; PackageDescription: 32-Pin Plastic Low Profile QFP, 7 x 7 x 1.4 mm Body, 0.8 mm Pitch; Code_JEITA: P-LQFP32-7x7-0.80; ComponentLink1Description: Manufacturer Link; ComponentLink1URL: http://sg.renesas.com/fmwk.jsp?cnt=740_family_landing.jsp&fp=/products/mpumcu/740_family/; ComponentLink2Description: Datasheet; ComponentLink2URL: http://documentation.renesas.com/eng/products/mpumcu/rej03b0140_7545ds.pdf; ComponentLink3Description: Packaging Specification; ComponentLink3URL: http://sg.renesas.com/media/products/common_info/package/pdf/ic/code/plqp0032gb_a.pdf
footprint PLQP0032GB-A_N (QFP, 32-Leads, Body 7x7mm, Pitch 0.8mm, IPC Medium Density)
footprint PLQP0032GB-A_L (QFP, 32-Leads, Body 7x7mm, Pitch 0.8mm, IPC High Density)
footprint PLQP0032GB-A_M (QFP, 32-Leads, Body 7x7mm, Pitch 0.8mm, IPC Low Density)
pins: 1 P2_5 (LED5) (io), 2 P2_6 (LED6) (io), 3 P2_7 (LED7) (io), 4 P4_2 / CARR (io), 5 VDDR, 6 ~{RESET} (in), 7 CNVSS (power), 8 VCC (power), 9 XIN (in), 10 XOUT (out), 11 VSS (power), 12 P3_0 (io), 13 P3_1 (io), 14 P3_2 (io), 15 P3_3 (io), 16 P3_4 (io), 17 P3_5 (io), 18 P3_6 (io), 19 P3_7 (io), 20 P0_0 / KEY0 (io), 21 P0_1 / KEY1 (io), 22 P0_2 / KEY2 (io), 23 P0_3 / KEY3 (io), 24 P0_4 / KEY4 (io), 25 P0_5 / KEY5 (io), 26 P0_6 / KEY6 (io), 27 P0_7 / KEY7 (io), 28 P2_0 (LED0) / INT0 (io), 29 P2_1 (LED1) / INT1 (io), 30 P2_2 (LED2) (io), 31 P2_3 (LED3) (io), 32 P2_4 (LED4) (io)

## M37545G8GP
designator U?
QzROM 8-BIT CMOS Microcomputer, 38000/740 Series CPU, 7545 Group, 32K ROM, 512 bytes RAM, 32P6U-A Pkg, shipped in blank; Published: 28-Aug-2009; DatasheetVersion: Rev.1.07, Mar-2009; PackageVersion: Oct-2005; PackageReference: PLQP0032GB-A; Publisher: Altium Limited; PackageDescription: 32-Pin Plastic Low Profile QFP, 7 x 7 x 1.4 mm Body, 0.8 mm Pitch; Code_JEITA: P-LQFP32-7x7-0.80; ComponentLink1Description: Manufacturer Link; ComponentLink1URL: http://sg.renesas.com/fmwk.jsp?cnt=740_family_landing.jsp&fp=/products/mpumcu/740_family/; ComponentLink2Description: Datasheet; ComponentLink2URL: http://documentation.renesas.com/eng/products/mpumcu/rej03b0140_7545ds.pdf; ComponentLink3Description: Packaging Specification; ComponentLink3URL: http://sg.renesas.com/media/products/common_info/package/pdf/ic/code/plqp0032gb_a.pdf
footprint PLQP0032GB-A_N (QFP, 32-Leads, Body 7x7mm, Pitch 0.8mm, IPC Medium Density)
footprint PLQP0032GB-A_L (QFP, 32-Leads, Body 7x7mm, Pitch 0.8mm, IPC High Density)
footprint PLQP0032GB-A_M (QFP, 32-Leads, Body 7x7mm, Pitch 0.8mm, IPC Low Density)
pins: 1 P2_5 (LED5) (io), 2 P2_6 (LED6) (io), 3 P2_7 (LED7) (io), 4 P4_2 / CARR (io), 5 VDDR, 6 ~{RESET} (in), 7 CNVSS (power), 8 VCC (power), 9 XIN (in), 10 XOUT (out), 11 VSS (power), 12 P3_0 (io), 13 P3_1 (io), 14 P3_2 (io), 15 P3_3 (io), 16 P3_4 (io), 17 P3_5 (io), 18 P3_6 (io), 19 P3_7 (io), 20 P0_0 / KEY0 (io), 21 P0_1 / KEY1 (io), 22 P0_2 / KEY2 (io), 23 P0_3 / KEY3 (io), 24 P0_4 / KEY4 (io), 25 P0_5 / KEY5 (io), 26 P0_6 / KEY6 (io), 27 P0_7 / KEY7 (io), 28 P2_0 (LED0) / INT0 (io), 29 P2_1 (LED1) / INT1 (io), 30 P2_2 (LED2) (io), 31 P2_3 (LED3) (io), 32 P2_4 (LED4) (io)